# EAGLE library part HDR_8X1 (library 0_skookumsynth_conn)
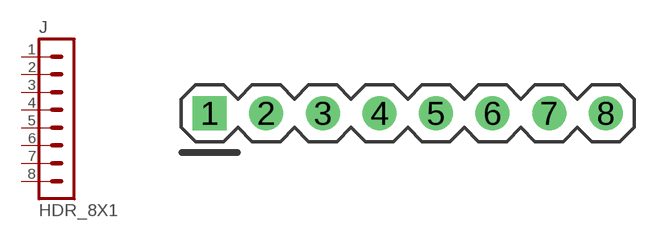
[diagram p4: symbol with the pads of HDR_8X1_M; footprint HDR_8X1_M]

Designator prefix J

## HDR_8X1  [HDR_8X1_M]
1  1  pas
2  2  pas
3  3  pas
4  4  pas
5  5  pas
6  6  pas
7  7  pas
8  8  pas

## Footprint HDR_8X1_M (pad centres in mm)
drill 1.016 square: 1 0,0
drill 1.016: 2 2.54,0; 3 5.08,0; 4 7.62,0; 5 10.16,0; 6 12.7,0; 7 15.24,0; 8 17.78,0